# Altium integrated library con-erni.IntLib: 13 symbols
Pins are listed as number, name and electrical type; pins without a type are passive.

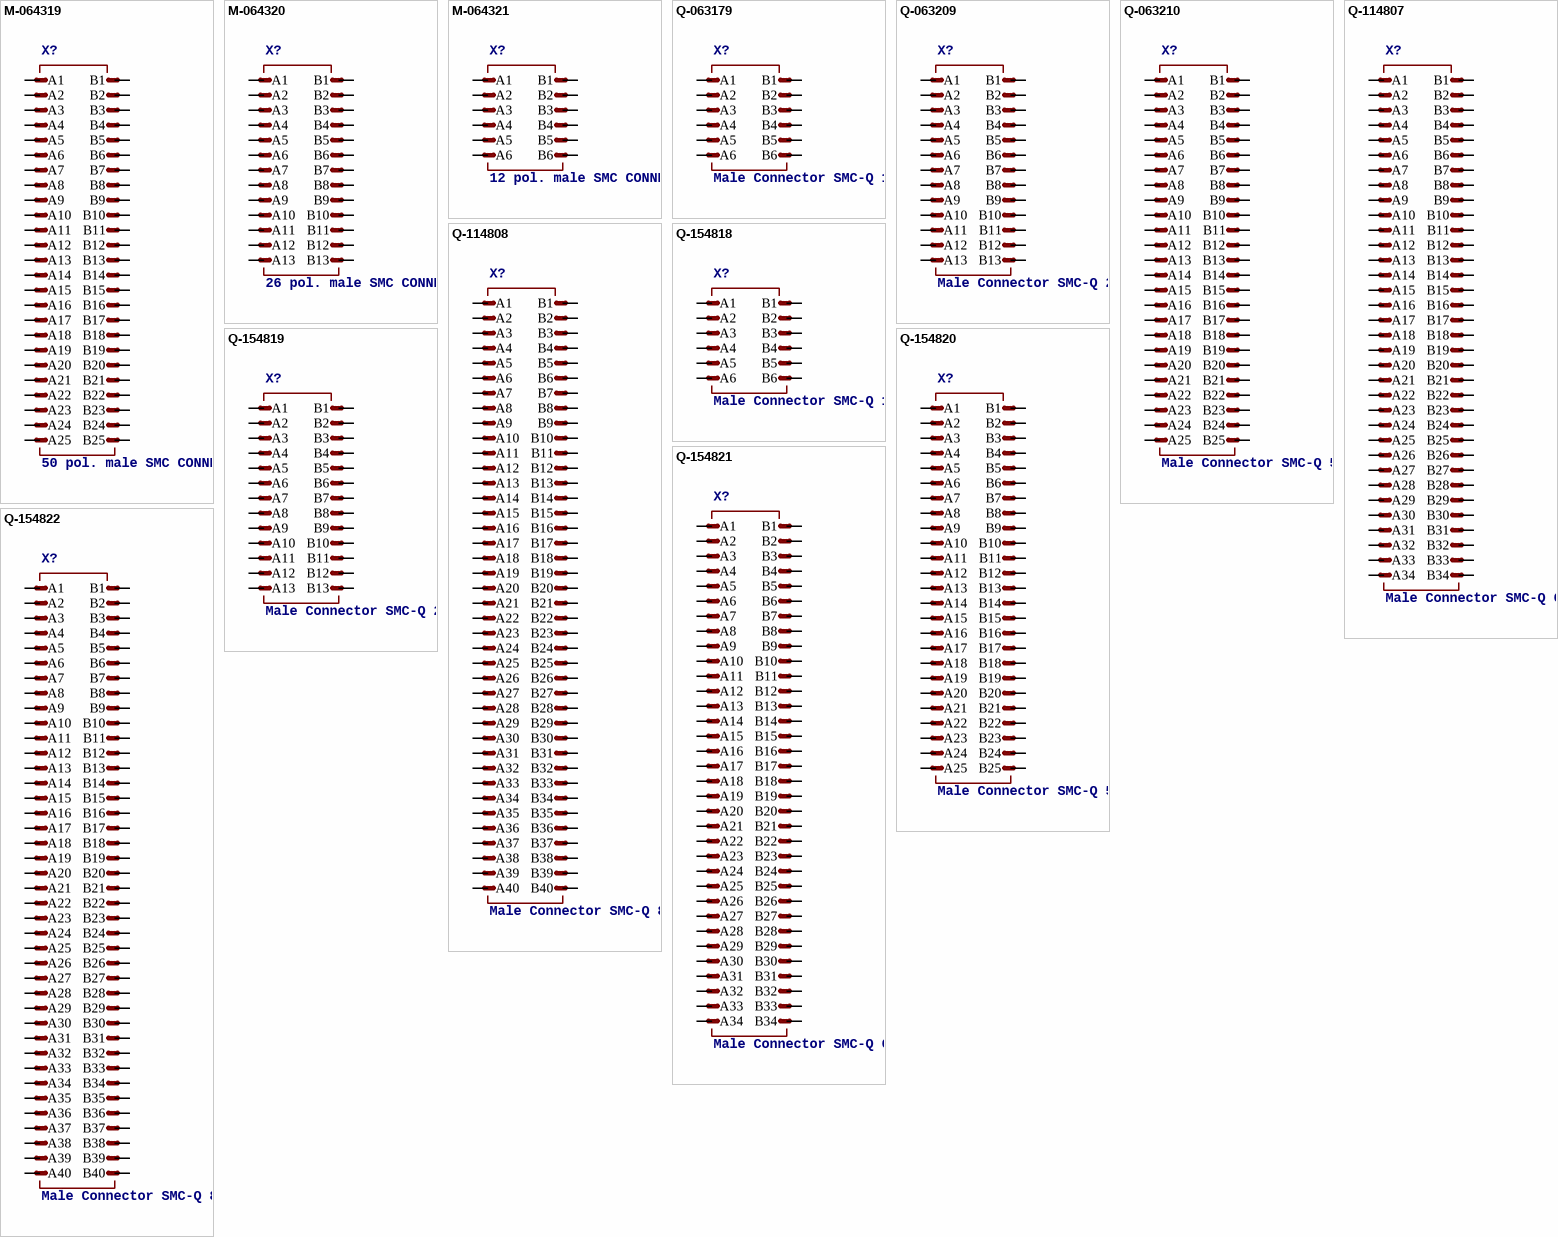
[diagram p0: symbols M-064319 to Q-154822]

## M-064319
designator X?, comment 50 pol. male SMC CONNECTOR vertical , type Q, low profile   Source: http://www.erni.com/DB/PDF-Drawing/SMC/064319.pdf
OC_FARNELL: unknown; OC_NEWARK: unknown
footprint M-064319
pins: A1, A2, A3, A4, A5, A6, A7, A8, A9, A10, A11, A12, A13, A14, A15, A16, A17, A18, A19, A20, A21, A22, A23, A24, A25, B1, B2, B3, B4, B5, B6, B7, B8, B9, B10, B11, B12, B13, B14, B15, B16, B17, B18, B19, B20, B21, B22, B23, B24, B25

## M-064320
designator X?, comment 26 pol. male SMC CONNECTOR vertical , type Q, low profile   Source: http://www.erni.com/DB/PDF-Drawing/SMC/064320.pdf
OC_FARNELL: unknown; OC_NEWARK: unknown
footprint M-064320
pins: A1, A2, A3, A4, A5, A6, A7, A8, A9, A10, A11, A12, A13, B1, B2, B3, B4, B5, B6, B7, B8, B9, B10, B11, B12, B13

## M-064321
designator X?, comment 12 pol. male SMC CONNECTOR vertical , type Q, low profile   Source: http://www.erni.com/DB/PDF-Drawing/SMC/064321.pdf
OC_FARNELL: unknown; OC_NEWARK: unknown
footprint M-064321
pins: A1, A2, A3, A4, A5, A6, B1, B2, B3, B4, B5, B6

## Q-063179
designator X?, comment Male Connector SMC-Q 12 contacts Standard Assembly Height   Source: http://www.erni.com/DB/PDF-Drawing/SMC/063179.pdf
OC_FARNELL: unknown; OC_NEWARK: unknown
footprint 063179
pins: A1, A2, A3, A4, A5, A6, B1, B2, B3, B4, B5, B6

## Q-063209
designator X?, comment Male Connector SMC-Q 26 contacts Standard Assembly Height   Source: http://www.erni.com/DB/PDF-Drawing/SMC/063209.pdf
OC_FARNELL: unknown; OC_NEWARK: unknown
footprint 063209
pins: A1, A2, A3, A4, A5, A6, A7, A8, A9, A10, A11, A12, A13, B1, B2, B3, B4, B5, B6, B7, B8, B9, B10, B11, B12, B13

## Q-063210
designator X?, comment Male Connector SMC-Q 50 contacts Standard Assembly Height   Source: http://www.erni.com/DB/PDF-Drawing/SMC/063210.pdf
OC_FARNELL: unknown; OC_NEWARK: unknown
footprint 063210
pins: A1, A2, A3, A4, A5, A6, A7, A8, A9, A10, A11, A12, A13, A14, A15, A16, A17, A18, A19, A20, A21, A22, A23, A24, A25, B1, B2, B3, B4, B5, B6, B7, B8, B9, B10, B11, B12, B13, B14, B15, B16, B17, B18, B19, B20, B21, B22, B23, B24, B25

## Q-114807
designator X?, comment Male Connector SMC-Q 68 contacts Standard Assembly Height   Source: http://www.erni.com/DB/PDF-Drawing/SMC/114807.pdf
OC_FARNELL: unknown; OC_NEWARK: unknown
footprint 114807
pins: A1, A2, A3, A4, A5, A6, A7, A8, A9, A10, A11, A12, A13, A14, A15, A16, A17, A18, A19, A20, A21, A22, A23, A24, A25, A26, A27, A28, A29, A30, A31, A32, A33, A34, B1, B2, B3, B4, B5, B6, B7, B8, B9, B10, B11, B12, B13, B14, B15, B16, B17, B18, B19, B20, B21, B22, B23, B24, B25, B26, B27, B28, B29, B30, B31, B32, B33, B34

## Q-114808
designator X?, comment Male Connector SMC-Q 80 contacts Standard Assembly Height   Source: http://www.erni.com/DB/PDF-Drawing/SMC/114808.pdf
OC_FARNELL: unknown; OC_NEWARK: unknown
footprint 114808
pins: A1, A2, A3, A4, A5, A6, A7, A8, A9, A10, A11, A12, A13, A14, A15, A16, A17, A18, A19, A20, A21, A22, A23, A24, A25, A26, A27, A28, A29, A30, A31, A32, A33, A34, A35, A36, A37, A38, A39, A40, B1, B2, B3, B4, B5, B6, B7, B8, B9, B10, B11, B12, B13, B14, B15, B16, B17, B18, B19, B20, B21, B22, B23, B24, B25, B26, B27, B28, B29, B30, B31, B32, B33, B34, B35, B36, B37, B38, B39, B40

## Q-154818
designator X?, comment Male Connector SMC-Q 12 contacts Type 7-13 - Low Profile   Source: http://www.erni.com/DB/PDF-Drawing/SMC/154818.pdf
OC_FARNELL: unknown; OC_NEWARK: unknown
footprint 154818
pins: A1, A2, A3, A4, A5, A6, B1, B2, B3, B4, B5, B6

## Q-154819
designator X?, comment Male Connector SMC-Q 26 contacts Type 7-13 - Low Profile   Source: http://www.erni.com/DB/PDF-Drawing/SMC/154819.pdf
OC_FARNELL: unknown; OC_NEWARK: unknown
footprint 154819
pins: A1, A2, A3, A4, A5, A6, A7, A8, A9, A10, A11, A12, A13, B1, B2, B3, B4, B5, B6, B7, B8, B9, B10, B11, B12, B13

## Q-154820
designator X?, comment Male Connector SMC-Q 50 contacts Type 7-13 - Low Profile   Source: http://www.erni.com/DB/PDF-Drawing/SMC/154820.pdf
OC_FARNELL: unknown; OC_NEWARK: unknown
footprint 154820
pins: A1, A2, A3, A4, A5, A6, A7, A8, A9, A10, A11, A12, A13, A14, A15, A16, A17, A18, A19, A20, A21, A22, A23, A24, A25, B1, B2, B3, B4, B5, B6, B7, B8, B9, B10, B11, B12, B13, B14, B15, B16, B17, B18, B19, B20, B21, B22, B23, B24, B25

## Q-154821
designator X?, comment Male Connector SMC-Q 68 contacts Type 7-13 - Low Profile   Source: http://www.erni.com/DB/PDF-Drawing/SMC/154821.pdf
OC_FARNELL: unknown; OC_NEWARK: unknown
footprint 154821
pins: A1, A2, A3, A4, A5, A6, A7, A8, A9, A10, A11, A12, A13, A14, A15, A16, A17, A18, A19, A20, A21, A22, A23, A24, A25, A26, A27, A28, A29, A30, A31, A32, A33, A34, B1, B2, B3, B4, B5, B6, B7, B8, B9, B10, B11, B12, B13, B14, B15, B16, B17, B18, B19, B20, B21, B22, B23, B24, B25, B26, B27, B28, B29, B30, B31, B32, B33, B34

## Q-154822
designator X?, comment Male Connector SMC-Q 80 contacts Type 7-13 - Low Profile   Source: http://www.erni.com/DB/PDF-Drawing/SMC/154822.pdf
OC_FARNELL: unknown; OC_NEWARK: unknown
footprint 154822
pins: A1, A2, A3, A4, A5, A6, A7, A8, A9, A10, A11, A12, A13, A14, A15, A16, A17, A18, A19, A20, A21, A22, A23, A24, A25, A26, A27, A28, A29, A30, A31, A32, A33, A34, A35, A36, A37, A38, A39, A40, B1, B2, B3, B4, B5, B6, B7, B8, B9, B10, B11, B12, B13, B14, B15, B16, B17, B18, B19, B20, B21, B22, B23, B24, B25, B26, B27, B28, B29, B30, B31, B32, B33, B34, B35, B36, B37, B38, B39, B40